# Altium footprint library RESC_0402_M1005.PcbLib: 1 footprints
Each footprint in its own frame and in the unit in brackets; x right, y up, seen from the top. Pads: shape width x height; smd on the part's side, far side on the other; paste and mask are expansions set on the pad; w line width, h text height; cw(c..) or ccw(c..) is an arc to the next point about the centre after c.
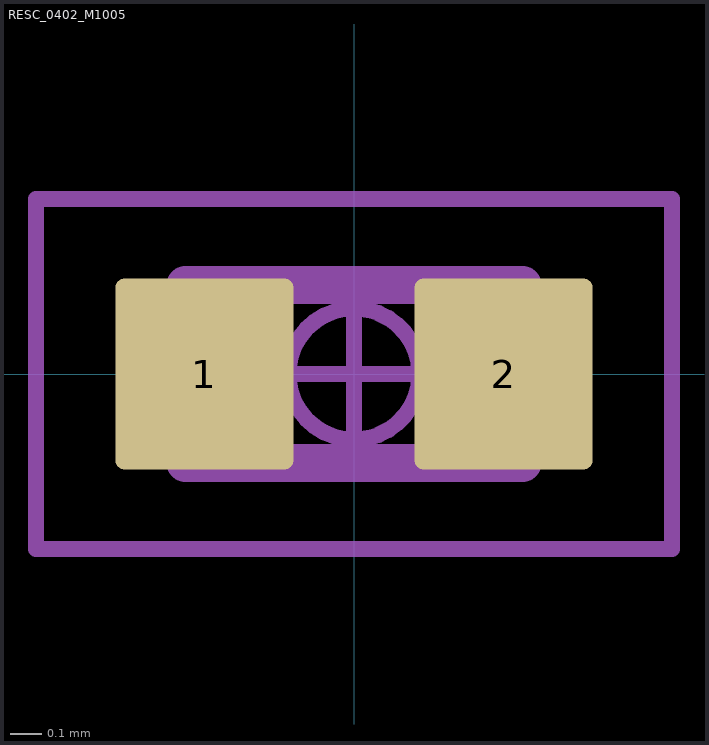
[diagram p0: the footprint, top view; thin cyan lines are the x and y axes]

## RESC_0402_M1005 [mm] "Resistor, Chip; 1.00 mm L X 0.50 mm W X 0.40 mm H body"
pads (2):
  rrect10% 0.56x0.6 smd: 1(-0.47,0) 2(0.47,0)
Mechanical 11:
  lines w0.12: -0.53,-0.28 -0.53,0.28 0.53,0.28 0.53,-0.28 -0.53,-0.28
  text ".Designator" at -1.276,-0.156 h0.7
Mechanical 15:
  circle w0.05: c0,0 r0.206
  lines w0.05: -0.275,0 0.275,0 ; 0,-0.275 0,0.275 ; -1,-0.55 -1,0.55 1,0.55 1,-0.55 -1,-0.55
3D body "RESC_0402_M1005.STEP": height 0.4, standoff 0, extent -0.525,-0.275 0.525,0.275